# Altium footprint library SamacSys.PcbLib: 6 footprints
Each footprint in its own frame and in the unit in brackets; x right, y up, seen from the top. Pads: shape width x height; smd on the part's side, far side on the other; paste and mask are expansions set on the pad; w line width, h text height; cw(c..) or ccw(c..) is an arc to the next point about the centre after c.
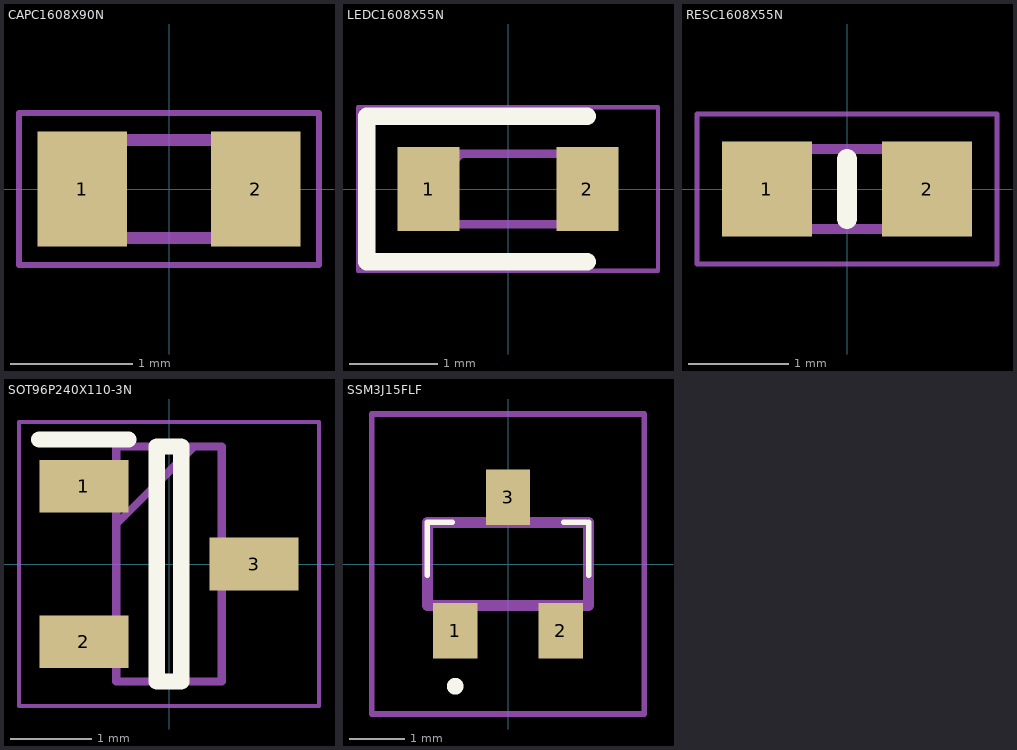
[diagram p0: the footprints below, top view; thin cyan lines are the x and y axes]

## CAPC1608X90N [mm]
pads (2):
  rect 0.73x0.94 smd: 1(-0.71,0) 2(0.71,0)
Mechanical 13:
  lines w0.1: -0.8,-0.4 0.8,-0.4 0.8,0.4 -0.8,0.4 -0.8,-0.4
Mechanical 15:
  lines w0.05: -1.225,-0.62 1.225,-0.62 1.225,0.62 -1.225,0.62 -1.225,-0.62
3D body "CL10B104KB8NNWC.stp": height 0.9, standoff 0, extent -0.8,-0.4 0.8,0.4

## LEDC1608X55N [mm]
pads (2):
  rect 0.7x0.95 smd: 1(-0.9,0) 2(0.9,0)
Top Overlay:
  lines w0.2: 0.9,-0.825 -1.6,-0.825 -1.6,0.825 0.9,0.825
Mechanical 13:
  lines w0.1: -0.8,0.133 -0.533,0.4 ; -0.8,-0.4 -0.8,0.4 0.8,0.4 0.8,-0.4 -0.8,-0.4
Mechanical 15:
  lines w0.05: -1.7,-0.925 -1.7,0.925 1.7,0.925 1.7,-0.925 -1.7,-0.925
3D body "SML-D12Y1WT86.stp": height 0.55, standoff 0, extent -0.83,-0.4 0.77,0.4

## PCBComponent_1 [mm]

## RESC1608X55N [mm]
pads (2):
  rect 0.9x0.95 smd: 1(-0.8,0) 2(0.8,0)
Top Overlay:
  lines w0.2: 0,-0.3 0,0.3
Mechanical 13:
  lines w0.1: -0.8,-0.4 -0.8,0.4 0.8,0.4 0.8,-0.4 -0.8,-0.4
Mechanical 15:
  lines w0.05: -1.5,-0.75 -1.5,0.75 1.5,0.75 1.5,-0.75 -1.5,-0.75
3D body "CR0603-FX-1001ELF.stp": height 0.55, standoff 0, extent -0.8,-0.4 0.8,0.4

## SOT96P240X110-3N [mm]
pads (3):
  rect 1.1x0.65 smd: 1(-1.05,0.96) 2(-1.05,-0.96) 3(1.05,0)
Top Overlay:
  lines w0.2: -1.6,1.535 -0.5,1.535 ; -0.15,-1.45 -0.15,1.45 0.15,1.45 0.15,-1.45 -0.15,-1.45
Mechanical 13:
  lines w0.1: -0.65,0.49 0.31,1.45 ; -0.65,-1.45 -0.65,1.45 0.65,1.45 0.65,-1.45 -0.65,-1.45
Mechanical 15:
  lines w0.05: -1.85,-1.75 -1.85,1.75 1.85,1.75 1.85,-1.75 -1.85,-1.75
3D body "MMBZ5225B-7-F.stp": height 1.1, standoff 0, extent -1.2,-1.45 1.2,1.45

## SSM3J15FLF [mm]
pads (3):
  rect 0.8x1 smd: 1(-0.95,-1.2) 2(0.95,-1.2) 3(0,1.2)
Top Overlay:
  lines w0.1: -1.45,0.75 -1.45,-0.2 -1.45,0.75 ; -1.45,0.75 -1,0.75 -1.45,0.75 ; 1,0.75 1.4,0.75 1,0.75 ; 1.45,-0.2 1.45,0.75 1.45,-0.2
  lines w0.2: -1,-2.2 ccw(c-0.95,-2.2) -0.9,-2.2 ; -1,-2.2 cw(c-0.95,-2.2) -0.9,-2.2 ; -1,-2.2 ccw(c-0.95,-2.2) -0.9,-2.2
Mechanical 13:
  lines w0.2: -1.45,-0.75 -1.45,0.75 1.45,0.75 1.45,-0.75 -1.45,-0.75
Mechanical 15:
  lines w0.1: -2.45,-2.7 -2.45,2.7 2.45,2.7 2.45,-2.7 -2.45,-2.7
3D body "SSM3J15F,LF.stp": height 1.5, standoff 0, extent -1.45,-1.62 1.45,1.62